# Altium schematic symbol library CONN-SPE-8P_MOLEX_39-28-1023.SchLib: 1 symbol
Pins are listed as number, name and electrical type; pins without a type are passive.

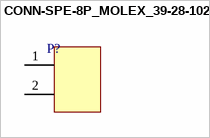
[diagram p0: symbol CONN-SPE-8P_MOLEX_39-28-1023]

## CONN-SPE-8P_MOLEX_39-28-1023
designator P?  (value not drawn)
pins: 1, 2